# EAGLE library part LT1019A-2.5PBF (library SquantorLinearTechnology)
V REF, BANDGAP, 2.5V, 0.05%, DIP-8
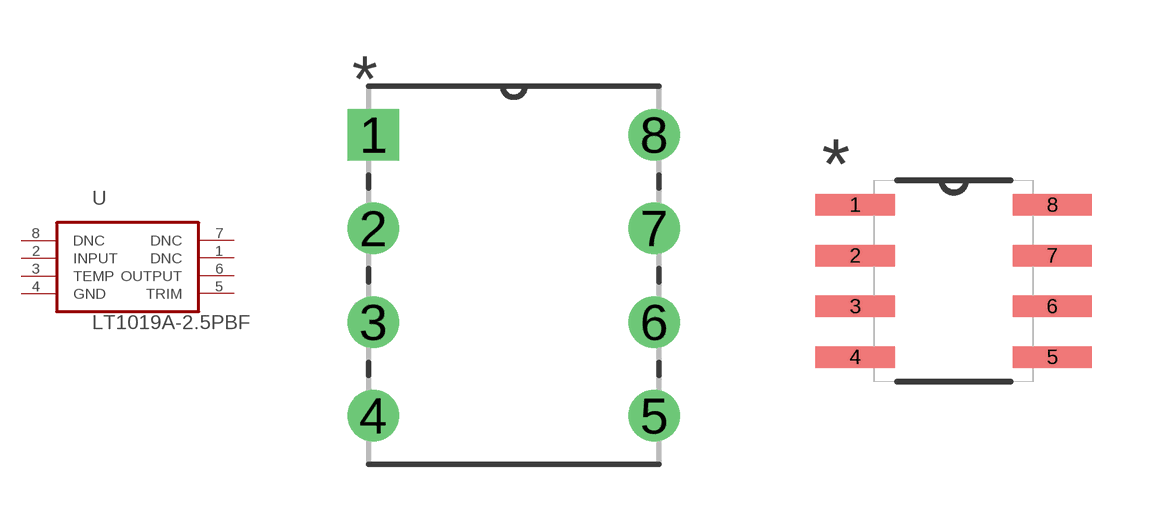
[diagram p8: symbol with the pads of DIP254P762X508-8P; footprints DIP254P762X508-8P, SOIC127P600X175-8N]

Designator prefix U

## LT1019A-2.5PBFN8 (MPN: LT1019ACN8-2.5#PBF; OC_FARNELL: 2211419; OC_NEWARK: 57M0897; PACKAGE: DIP-8; SUPPLIER: LINEAR TECHNOLOGY)  [DIP254P762X508-8P]
1  DNC  nc
2  INPUT  in
3  TEMP  in
4  GND  pas
5  TRIM  in
6  OUTPUT  out
7  DNC  nc
8  DNC  nc

## LT1019A-2.5PBFS8  [SOIC127P600X175-8N]
1  DNC  nc
2  INPUT  in
3  TEMP  in
4  GND  pas
5  TRIM  in
6  OUTPUT  out
7  DNC  nc
8  DNC  nc

## Footprint DIP254P762X508-8P (pad centres in mm)
drill 0.889 square: 1 -7.62,7.62
drill 0.889: 2 -7.62,5.08; 3 -7.62,2.54; 4 -7.62,0; 5 0,0; 6 0,2.54; 7 0,5.08; 8 0,7.62

## Footprint SOIC127P600X175-8N (pad centres in mm)
smd 1.981 x 0.533: 1 -2.464,1.905; 2 -2.464,0.635; 3 -2.464,-0.635; 4 -2.464,-1.905; 5 2.464,-1.905; 6 2.464,-0.635; 7 2.464,0.635; 8 2.464,1.905